# Altium footprint library Terminal Block.PcbLib: 2 footprints
Each footprint in its own frame and in the unit in brackets; x right, y up, seen from the top. Pads: shape width x height; smd on the part's side, far side on the other; paste and mask are expansions set on the pad; w line width, h text height; cw(c..) or ccw(c..) is an arc to the next point about the centre after c.
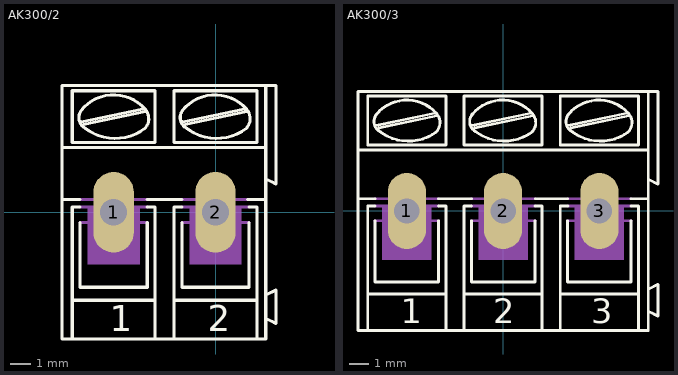
[diagram p0: the footprints below, top view; thin cyan lines are the x and y axes]

## AK300/2 [mil]
pads (2):
  oval 78x156 hole 52: 1(-197,0) 2(0,0)
Top Overlay:
  lines w6: -297,245 -297,125 -297,25 ; -295,125 97,125 ; -295,245 97,245 ; -262,-20 -262,-145 -132,-145 -132,-20 ; -262,10 -277,10 -277,-170 ; -262,25 -297,25 ; -260,175 -140,200 ; -259.99,197.01 cw(c-197,146) -135.82,199.18 ; -258.08,198.92 ccw(c-241,183) -252.32,162.57 ; -255,170 -135,195 ; -254.44,164.36 ccw(c-194,239) -136.19,162.29 ; -138.1,160.91 ccw(c-156.19,181.01) -136.09,199.1 ; -132,10 -117,10 -117,-170 ; -132,25 -65,25 ; -65,-20 -65,-145 65,-145 65,-20 ; -65,10 -80,10 -80,-170 ; -64,175 56,200 ; -63.99,197.01 cw(c-1,146) 60.18,199.18 ; -62.08,198.92 ccw(c-45,183) -56.32,162.57 ; -59,170 61,195 ; -58.44,164.36 ccw(c2,239) 59.8,162.29 ; 57.9,160.91 ccw(c39.81,181.01) 59.91,199.1 ; 62,25 97,25 ; 65,10 80,10 80,-170 ; 77,-245 97,-245 97,-205 ; -297,25 -297,-245 -277,-245 ; -277,-245 -117,-245 ; -277,-245 -277,-170 ; -277,-170 -117,-170 ; -117,-245 -117,-170 ; -117,-245 -80,-245 ; -80,-245 -80,-170 ; -80,-245 80,-245 80,-170 ; -80,-170 80,-170 ; 97,-205 117,-215 117,-150 97,-160 ; 97,-205 97,-160 ; 97,-160 97,25 ; 97,25 97,65 ; 97,65 117,55 117,245 97,245 ; 97,65 97,125 ; 97,125 97,245 ; -277,135 -117,135 -117,235 -277,235 -277,135 ; -80,135 -80,235 80,235 80,135 -80,135
  text "2" at -15,-230 h50
  text "1" at -205,-230 h50
Mechanical 13:
  region: -147,-100 -247,-100 -247,10 -147,10
  region: 50,-100 -50,-100 -50,10 50,10
  lines w6: -262,-20 -247,-20 ; -262,10 -132,10 ; -262,25 -132,25 ; -147,-20 -132,-20 ; -65,-20 -50,-20 ; -65,10 65,10 ; -65,25 65,25 ; 50,-20 65,-20
3D body "DG300-5.0-02P-12-00AH.STEP": height 496.06, standoff -173.23, extent -319.04,-157.47 98.28,196.86

## AK300/3 [mil]
pads (3):
  oval 78x156 hole 52: 1(-197,0) 2(0,0) 3(197,0)
Top Overlay:
  lines w6: -262,-20 -262,-145 -132,-145 -132,-20 ; -262,10 -277,10 -277,-170 ; -262,25 -297,25 ; -260,175 -140,200 ; -259.99,197.01 cw(c-197,146) -135.82,199.18 ; -258.08,198.92 ccw(c-241,183) -252.32,162.57 ; -255,170 -135,195 ; -254.44,164.36 ccw(c-194,239) -136.19,162.29 ; -138.1,160.91 ccw(c-156.19,181.01) -136.09,199.1 ; -132,10 -117,10 -117,-170 ; -132,25 -65,25 ; -65,-20 -65,-145 65,-145 65,-20 ; -65,10 -80,10 -80,-170 ; -64,175 56,200 ; -63.99,197.01 cw(c-1,146) 60.18,199.18 ; -62.08,198.92 ccw(c-45,183) -56.32,162.57 ; -59,170 61,195 ; -58.44,164.36 ccw(c2,239) 59.8,162.29 ; 57.9,160.91 ccw(c39.81,181.01) 59.91,199.1 ; 65,10 80,10 80,-170 ; 66,25 132,25 ; 132,-20 132,-145 262,-145 262,-20 ; 133,10 117,10 117,-170 ; 133,175 253,200 ; 133.01,197.01 cw(c196,146) 257.17,199.17 ; 134.92,198.92 ccw(c152,183) 140.68,162.57 ; 138,170 258,195 ; 138.56,164.36 ccw(c199,239) 256.8,162.29 ; 254.9,160.91 ccw(c236.81,181.01) 256.91,199.1 ; 262,10 277,10 277,-170 ; 262,25 297,25 ; -297,25 -297,125 ; -297,25 -297,-245 -277,-245 ; -297,125 -297,245 297,245 ; -297,125 297,125 ; -277,-245 -277,-170 ; -277,-245 -117,-245 ; -277,-170 -117,-170 ; -117,-245 -80,-245 ; -117,-245 -117,-170 ; -80,-245 80,-245 ; -80,-245 -80,-170 ; -80,-170 80,-170 ; 80,-245 80,-170 ; 80,-245 117,-245 ; 117,-245 277,-245 ; 117,-245 117,-170 ; 117,-170 277,-170 ; 277,-245 277,-170 ; 277,-245 297,-245 297,-205 ; 297,-205 297,-160 ; 297,-205 317,-215 317,-150 297,-160 ; 297,-160 297,25 ; 297,25 297,65 ; 297,65 297,125 ; 297,65 317,55 317,245 297,245 ; 297,125 297,245 ; -277,135 -277,235 -117,235 -117,135 -277,135 ; -80,135 80,135 80,235 -80,235 -80,135 ; 117,135 277,135 277,235 117,235 117,135
  text "3" at 180,-230 h50
  text "1" at -210,-230 h50
  text "2" at -20,-230 h50
Mechanical 13:
  region: 247,-100 147,-100 147,10 247,10
  region: 50,-100 -50,-100 -50,10 50,10
  region: -147,-100 -247,-100 -247,10 -147,10
  lines w6: -262,-20 -247,-20 ; -262,10 -132,10 ; -262,25 -132,25 ; -147,-20 -132,-20 ; -65,-20 -50,-20 ; -65,10 65,10 ; -65,25 65,25 ; 50,-20 65,-20 ; 132,-20 146,-20 ; 133,10 262,10 ; 133,25 262,25 ; 247,-20 262,-20
3D body "DG300-5.0-03P-12-00AH.STEP": height 496.06, standoff -173.23, extent -318.89,-157.47 295.28,196.86